# Altium footprint library DFN-1.6X1.6-6L.PcbLib: 1 footprints
Each footprint in its own frame and in the unit in brackets; x right, y up, seen from the top. Pads: shape width x height; smd on the part's side, far side on the other; paste and mask are expansions set on the pad; w line width, h text height; cw(c..) or ccw(c..) is an arc to the next point about the centre after c.
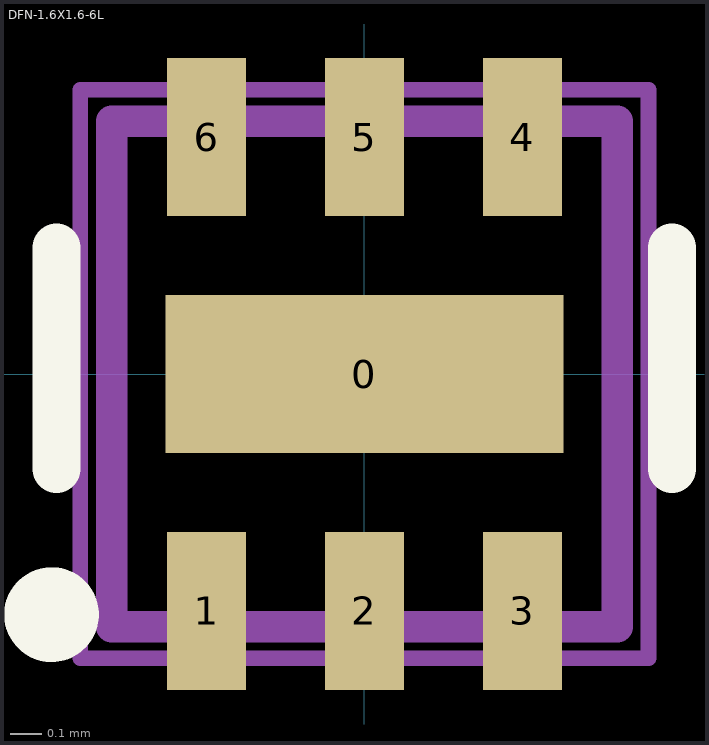
[diagram p0: the footprint, top view; thin cyan lines are the x and y axes]

## DFN-1.6X1.6-6L [mm]
height 0.55
pads (7):
  rect 1.26x0.5 smd: 0(0,0)
  rect 0.25x0.5 smd: 1(-0.5,-0.75) 2(0,-0.75) 3(0.5,-0.75) 4(0.5,0.75) 5(0,0.75) 6(-0.5,0.75)
Top Overlay:
  circle w0.2: c-0.991,-0.762 r0.05
  lines w0.152: -0.975,-0.3 -0.975,0.4 ; 0.975,-0.3 0.975,0.4
Mechanical 13:
  lines w0.1: -0.8,-0.8 0.8,-0.8 0.8,0.8 -0.8,0.8 -0.8,-0.8
Mechanical 15:
  lines w0.05: -0.9,-0.9 0.9,-0.9 0.9,0.9 -0.9,0.9 -0.9,-0.9
3D body: height 0.55, standoff 0, extent -0.8,-0.8 0.8,0.8